# Altium integrated library Analog Devices Clock Generation and Distribution.IntLib: 120 symbols (part 2 of 18)
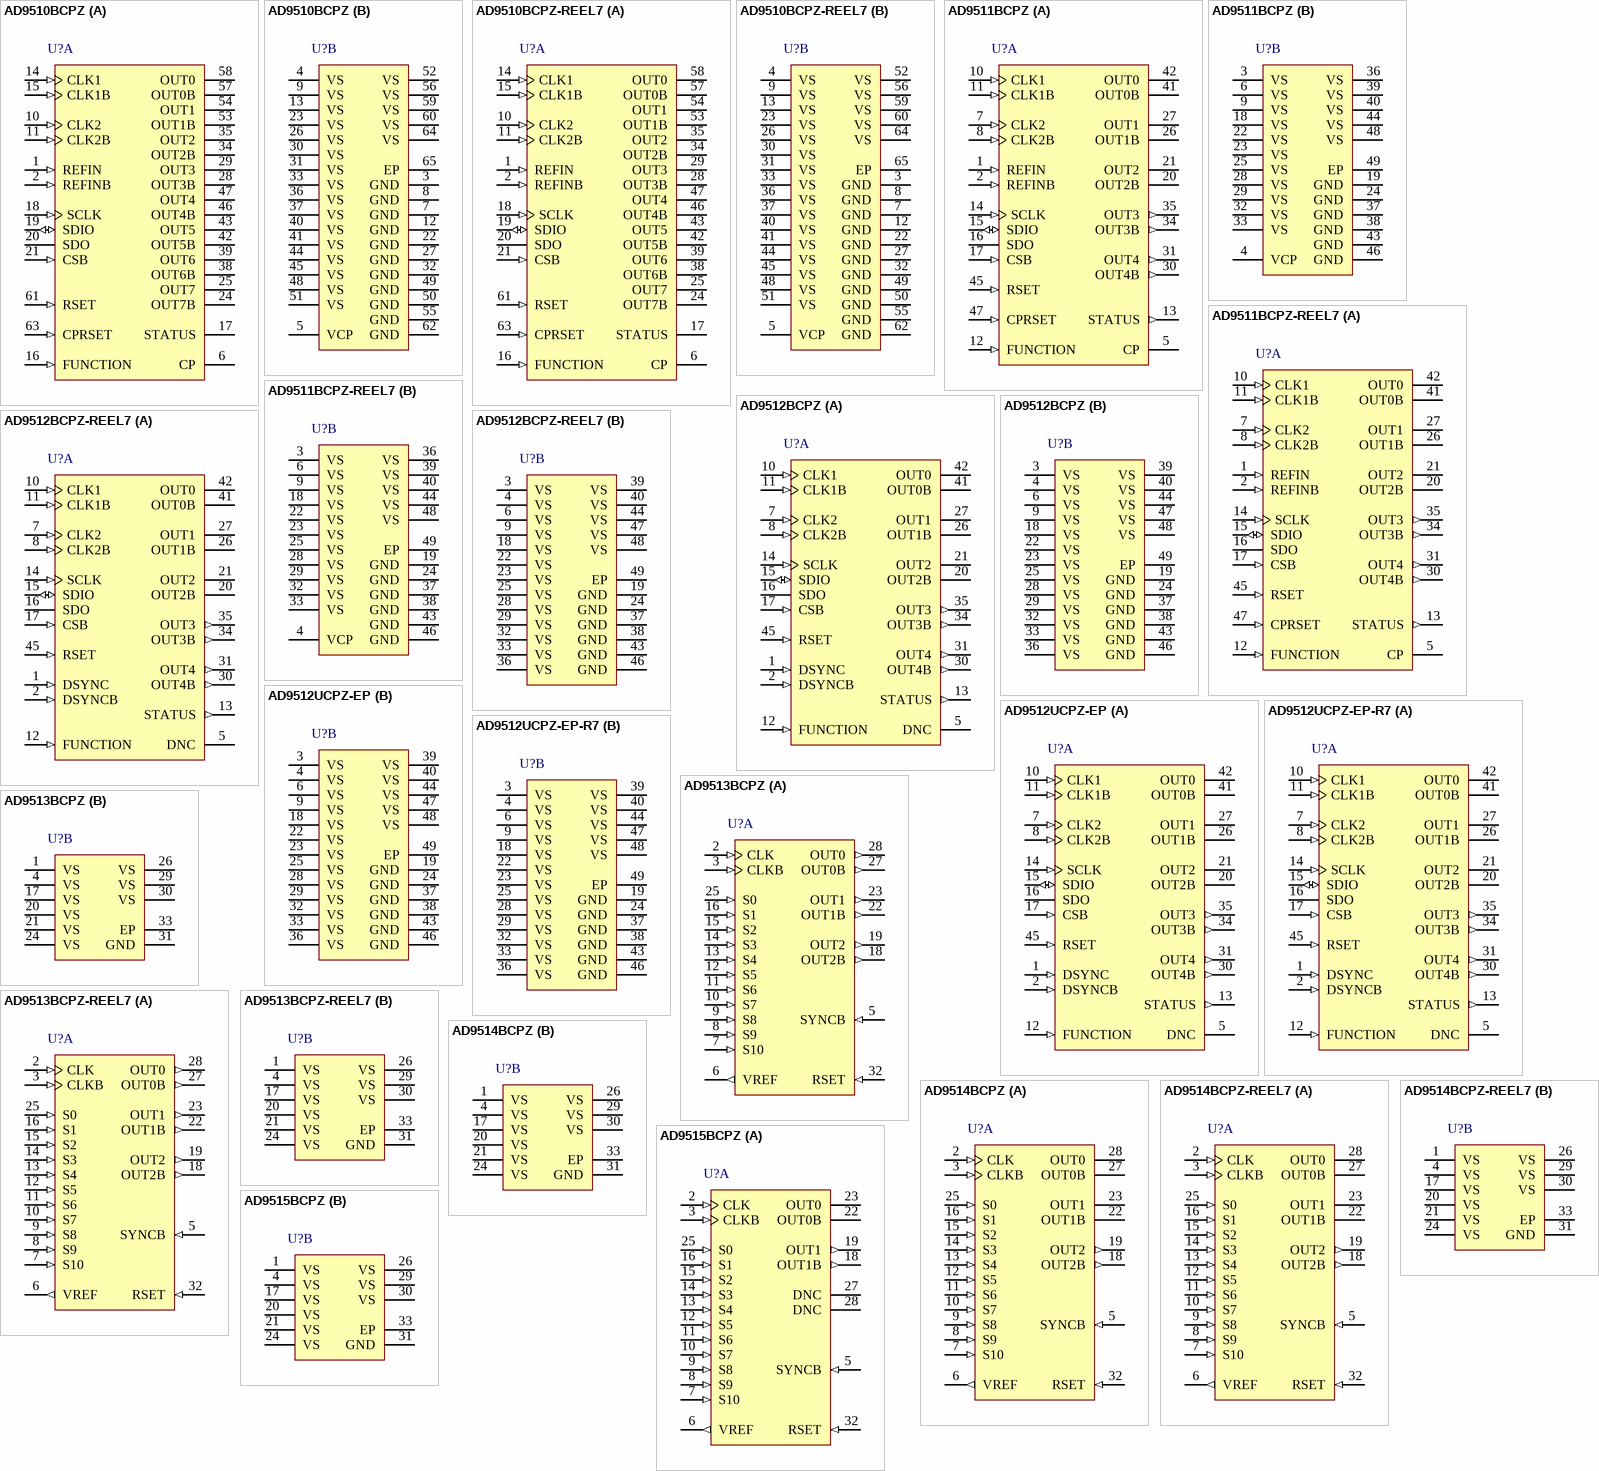
[diagram p13: symbols AD9510BCPZ to AD9515BCPZ]

## AD9514BCPZ
designator U?
3 Outputs, 1.6 GHz Clock Distribution IC with Dividers and Delay Adjust, 3.3 V Supply, Industrial, 32-pin QFN (CP-32-2), Tray; Manufacturer: Analog Devices; PartNumber: AD9514BCPZ; # of Inputs: 1; # of Outputs: 3; Supply Voltage (V): 3.3; I/O Interface: Pin Select; Max f-out: 1.6 GHz; On-Chip VCO or DCO: No; Output Logic: CMOS, LVDS, LVPECL; DatasheetVersion: Rev. 0; PackageVersion: 01/2005; PackageReference: CP-32-2; PackageDescription: 32-Pin Lead Frame Chip Scale Package, Body 5 x 5 mm, Pitch 0.5 mm; Supplier 1: Digi-Key; Supplier Part Number 1: AD9514BCPZ-ND; Supplier 2: Farnell; Supplier Part Number 2: 1117885; Supplier 3: Newark; Supplier Part Number 3: 31M4654; Supplier 4: Newark; Supplier Part Number 4: 59K7292; Supplier 5: Mouser; Supplier Part Number 5: 584-AD9514BCPZ; Packing: Tray; Mounting Technology: Surface Mount; Code_JEDEC: MO-220-VHHD-2; ComponentLink1Description: Manufacturer URL; ComponentLink1URL: http://www.analog.com/en/index.html; ComponentLink2Description: Datasheet; ComponentLink2URL: http://www.analog.com/static/imported-files/data_sheets/AD9514.pdf; ComponentLink3Description: Package Specification; ComponentLink3URL: http://www.analog.com/static/imported-files/packages/414143737956480539664569CP_32_2.pdf; ComponentLink4Description: Product URL; ComponentLink4URL: http://www.analog.com/en/clock-and-timing/clock-generation-and-distribution/ad9514/products/product.html; ComponentLink5Description: Reference Circuit; ComponentLink5URL: http://www.analog.com/en/clock-and-timing/clock-generation-and-distribution/ad9514/products/product.html#product-recommendations
footprint ADI-CP-32-2_N (QFN, 32-Leads, Body 5x5mm, Pitch 0.5mm, Thermal Pad 3.1x3.1mm, IPC Medium Density)
footprint ADI-CP-32-2_L (QFN, 32-Leads, Body 5x5mm, Pitch 0.5mm, Thermal Pad 3.1x3.1mm, IPC High Density)
footprint ADI-CP-32-2_M (QFN, 32-Leads, Body 5x5mm, Pitch 0.5mm, Thermal Pad 3.1x3.1mm, IPC Low Density)
part A pins: 2 CLK (in) "Clock Input.", 3 CLKB (in) "Complementary Clock Input.", 5 SYNCB (in) "Used to Synchronize Outputs; Do Not Let Float.", 6 VREF (out) "Provides 2/3 VS for Use as One of the Four Logic Levels on S0 to S10.", 7 S10 (in) "Setup Select Pins. These are 4-state logic. The logic levels are VS, GND, 1/3 VS, and 2/3 VS. The VREF pin provides 2/3 VS. Each pin is internally biased to 1/3 VS so that a pin requiring that logic level should be left no connection (NC).", 8 S9 (in) "Setup Select Pins. These are 4-state logic. The logic levels are VS, GND, 1/3 VS, and 2/3 VS. The VREF pin provides 2/3 VS. Each pin is internally biased to 1/3 VS so that a pin requiring that logic level should be left no connection (NC).", 9 S8 (in) "Setup Select Pins. These are 4-state logic. The logic levels are VS, GND, 1/3 VS, and 2/3 VS. The VREF pin provides 2/3 VS. Each pin is internally biased to 1/3 VS so that a pin requiring that logic level should be left no connection (NC).", 10 S7 (in) "Setup Select Pins. These are 4-state logic. The logic levels are VS, GND, 1/3 VS, and 2/3 VS. The VREF pin provides 2/3 VS. Each pin is internally biased to 1/3 VS so that a pin requiring that logic level should be left no connection (NC).", 11 S6 (in) "Setup Select Pins. These are 4-state logic. The logic levels are VS, GND, 1/3 VS, and 2/3 VS. The VREF pin provides 2/3 VS. Each pin is internally biased to 1/3 VS so that a pin requiring that logic level should be left no connection (NC).", 12 S5 (in) "Setup Select Pins. These are 4-state logic. The logic levels are VS, GND, 1/3 VS, and 2/3 VS. The VREF pin provides 2/3 VS. Each pin is internally biased to 1/3 VS so that a pin requiring that logic level should be left no connection (NC).", 13 S4 (in) "Setup Select Pins. These are 4-state logic. The logic levels are VS, GND, 1/3 VS, and 2/3 VS. The VREF pin provides 2/3 VS. Each pin is internally biased to 1/3 VS so that a pin requiring that logic level should be left no connection (NC).", 14 S3 (in) "Setup Select Pins. These are 4-state logic. The logic levels are VS, GND, 1/3 VS, and 2/3 VS. The VREF pin provides 2/3 VS. Each pin is internally biased to 1/3 VS so that a pin requiring that logic level should be left no connection (NC).", 15 S2 (in) "Setup Select Pins. These are 4-state logic. The logic levels are VS, GND, 1/3 VS, and 2/3 VS. The VREF pin provides 2/3 VS. Each pin is internally biased to 1/3 VS so that a pin requiring that logic level should be left no connection (NC).", 16 S1 (in) "Setup Select Pins. These are 4-state logic. The logic levels are VS, GND, 1/3 VS, and 2/3 VS. The VREF pin provides 2/3 VS. Each pin is internally biased to 1/3 VS so that a pin requiring that logic level should be left no connection (NC).", 18 OUT2B (out) "Complementary LVDS/Inverted CMOS Output.", 19 OUT2 (out) "LVDS/CMOS Output.", 22 OUT1B (oe) "Complementary LVPECL Output.", 23 OUT1 (oe) "LVPECL Output.", 25 S0 (in) "Setup Select Pins. These are 4-state logic. The logic levels are VS, GND, 1/3 VS, and 2/3 VS. The VREF pin provides 2/3 VS. Each pin is internally biased to 1/3 VS so that a pin requiring that logic level should be left no connection (NC).", 27 OUT0B (oe) "Complementary LVPECL Output.", 28 OUT0 (oe) "LVPECL Output.", 32 RSET (in) "Current Sets Resistor to Ground. Nominal value = 4.12 K ohm."
part B pins: 1 VS (power) "Power Supply (3.3 V).", 4 VS (power) "Power Supply (3.3 V).", 17 VS (power) "Power Supply (3.3 V).", 20 VS (power) "Power Supply (3.3 V).", 21 VS (power) "Power Supply (3.3 V).", 24 VS (power) "Power Supply (3.3 V).", 26 VS (power) "Power Supply (3.3 V).", 29 VS (power) "Power Supply (3.3 V).", 30 VS (power) "Power Supply (3.3 V).", 31 GND (power) "Ground. The exposed paddle on the back of the chip is also GND.", 33 EP (power) "Ground. The exposed paddle on the back of the chip is also GND."

## AD9514BCPZ-REEL7
designator U?
3 Outputs, 1.6 GHz Clock Distribution IC with Dividers and Delay Adjust, 3.3 V Supply, Industrial, 32-pin QFN (CP-32-2), Reel; Manufacturer: Analog Devices; PartNumber: AD9514BCPZ-REEL7; # of Inputs: 1; # of Outputs: 3; Supply Voltage (V): 3.3; I/O Interface: Pin Select; Max f-out: 1.6 GHz; On-Chip VCO or DCO: No; Output Logic: CMOS, LVDS, LVPECL; DatasheetVersion: Rev. 0; PackageVersion: 01/2005; PackageReference: CP-32-2; PackageDescription: 32-Pin Lead Frame Chip Scale Package, Body 5 x 5 mm, Pitch 0.5 mm; Supplier 1: Digi-Key; Supplier Part Number 1: AD9514BCPZ-REEL7-ND; Supplier 2: Newark; Supplier Part Number 2: 59K7293; Supplier 3: Mouser; Supplier Part Number 3: 584-AD9514BCPZ-R7; Packing: Reel; Mounting Technology: Surface Mount; Code_JEDEC: MO-220-VHHD-2; ComponentLink1Description: Manufacturer URL; ComponentLink1URL: http://www.analog.com/en/index.html; ComponentLink2Description: Datasheet; ComponentLink2URL: http://www.analog.com/static/imported-files/data_sheets/AD9514.pdf; ComponentLink3Description: Package Specification; ComponentLink3URL: http://www.analog.com/static/imported-files/packages/414143737956480539664569CP_32_2.pdf; ComponentLink4Description: Product URL; ComponentLink4URL: http://www.analog.com/en/clock-and-timing/clock-generation-and-distribution/ad9514/products/product.html; ComponentLink5Description: Reference Circuit; ComponentLink5URL: http://www.analog.com/en/clock-and-timing/clock-generation-and-distribution/ad9514/products/product.html#product-recommendations
footprint ADI-CP-32-2_N (QFN, 32-Leads, Body 5x5mm, Pitch 0.5mm, Thermal Pad 3.1x3.1mm, IPC Medium Density)
footprint ADI-CP-32-2_L (QFN, 32-Leads, Body 5x5mm, Pitch 0.5mm, Thermal Pad 3.1x3.1mm, IPC High Density)
footprint ADI-CP-32-2_M (QFN, 32-Leads, Body 5x5mm, Pitch 0.5mm, Thermal Pad 3.1x3.1mm, IPC Low Density)
part A pins: 2 CLK (in) "Clock Input.", 3 CLKB (in) "Complementary Clock Input.", 5 SYNCB (in) "Used to Synchronize Outputs; Do Not Let Float.", 6 VREF (out) "Provides 2/3 VS for Use as One of the Four Logic Levels on S0 to S10.", 7 S10 (in) "Setup Select Pins. These are 4-state logic. The logic levels are VS, GND, 1/3 VS, and 2/3 VS. The VREF pin provides 2/3 VS. Each pin is internally biased to 1/3 VS so that a pin requiring that logic level should be left no connection (NC).", 8 S9 (in) "Setup Select Pins. These are 4-state logic. The logic levels are VS, GND, 1/3 VS, and 2/3 VS. The VREF pin provides 2/3 VS. Each pin is internally biased to 1/3 VS so that a pin requiring that logic level should be left no connection (NC).", 9 S8 (in) "Setup Select Pins. These are 4-state logic. The logic levels are VS, GND, 1/3 VS, and 2/3 VS. The VREF pin provides 2/3 VS. Each pin is internally biased to 1/3 VS so that a pin requiring that logic level should be left no connection (NC).", 10 S7 (in) "Setup Select Pins. These are 4-state logic. The logic levels are VS, GND, 1/3 VS, and 2/3 VS. The VREF pin provides 2/3 VS. Each pin is internally biased to 1/3 VS so that a pin requiring that logic level should be left no connection (NC).", 11 S6 (in) "Setup Select Pins. These are 4-state logic. The logic levels are VS, GND, 1/3 VS, and 2/3 VS. The VREF pin provides 2/3 VS. Each pin is internally biased to 1/3 VS so that a pin requiring that logic level should be left no connection (NC).", 12 S5 (in) "Setup Select Pins. These are 4-state logic. The logic levels are VS, GND, 1/3 VS, and 2/3 VS. The VREF pin provides 2/3 VS. Each pin is internally biased to 1/3 VS so that a pin requiring that logic level should be left no connection (NC).", 13 S4 (in) "Setup Select Pins. These are 4-state logic. The logic levels are VS, GND, 1/3 VS, and 2/3 VS. The VREF pin provides 2/3 VS. Each pin is internally biased to 1/3 VS so that a pin requiring that logic level should be left no connection (NC).", 14 S3 (in) "Setup Select Pins. These are 4-state logic. The logic levels are VS, GND, 1/3 VS, and 2/3 VS. The VREF pin provides 2/3 VS. Each pin is internally biased to 1/3 VS so that a pin requiring that logic level should be left no connection (NC).", 15 S2 (in) "Setup Select Pins. These are 4-state logic. The logic levels are VS, GND, 1/3 VS, and 2/3 VS. The VREF pin provides 2/3 VS. Each pin is internally biased to 1/3 VS so that a pin requiring that logic level should be left no connection (NC).", 16 S1 (in) "Setup Select Pins. These are 4-state logic. The logic levels are VS, GND, 1/3 VS, and 2/3 VS. The VREF pin provides 2/3 VS. Each pin is internally biased to 1/3 VS so that a pin requiring that logic level should be left no connection (NC).", 18 OUT2B (out) "Complementary LVDS/Inverted CMOS Output.", 19 OUT2 (out) "LVDS/CMOS Output.", 22 OUT1B (oe) "Complementary LVPECL Output.", 23 OUT1 (oe) "LVPECL Output.", 25 S0 (in) "Setup Select Pins. These are 4-state logic. The logic levels are VS, GND, 1/3 VS, and 2/3 VS. The VREF pin provides 2/3 VS. Each pin is internally biased to 1/3 VS so that a pin requiring that logic level should be left no connection (NC).", 27 OUT0B (oe) "Complementary LVPECL Output.", 28 OUT0 (oe) "LVPECL Output.", 32 RSET (in) "Current Sets Resistor to Ground. Nominal value = 4.12 K ohm."
part B pins: 1 VS (power) "Power Supply (3.3 V).", 4 VS (power) "Power Supply (3.3 V).", 17 VS (power) "Power Supply (3.3 V).", 20 VS (power) "Power Supply (3.3 V).", 21 VS (power) "Power Supply (3.3 V).", 24 VS (power) "Power Supply (3.3 V).", 26 VS (power) "Power Supply (3.3 V).", 29 VS (power) "Power Supply (3.3 V).", 30 VS (power) "Power Supply (3.3 V).", 31 GND (power) "Ground. The exposed paddle on the back of the chip is also GND.", 33 EP (power) "Ground. The exposed paddle on the back of the chip is also GND."

## AD9515BCPZ
designator U?
2 Outputs, 1.6 GHz Clock Distribution IC with Dividers and Delay Adjust, 3.3 V Supply, Industrial, 32-pin QFN (CP-32-2), Tray; Manufacturer: Analog Devices; PartNumber: AD9515BCPZ; # of Inputs: 1; # of Outputs: 2; Supply Voltage (V): 3.3; I/O Interface: Pin Select; Max f-out: 1.6 GHz; On-Chip VCO or DCO: No; Output Logic: CMOS, LVDS, LVPECL; DatasheetVersion: Rev. A; PackageVersion: 01/2005; PackageReference: CP-32-2; PackageDescription: 32-Pin Lead Frame Chip Scale Package, Body 5 x 5 mm, Pitch 0.5 mm; Supplier 1: Digi-Key; Supplier Part Number 1: AD9515BCPZ-ND; Supplier 2: Farnell; Supplier Part Number 2: 1117884; Supplier 3: Newark; Supplier Part Number 3: 59K7295; Supplier 4: Mouser; Supplier Part Number 4: 584-AD9515BCPZ; Packing: Tray; Mounting Technology: Surface Mount; Code_JEDEC: MO-220-VHHD-2; ComponentLink1Description: Manufacturer URL; ComponentLink1URL: http://www.analog.com/en/index.html; ComponentLink2Description: Datasheet; ComponentLink2URL: http://www.analog.com/static/imported-files/data_sheets/AD9515.pdf; ComponentLink3Description: Package Specification; ComponentLink3URL: http://www.analog.com/static/imported-files/packages/414143737956480539664569CP_32_2.pdf; ComponentLink4Description: Product URL; ComponentLink4URL: http://www.analog.com/en/clock-and-timing/clock-generation-and-distribution/ad9515/products/product.html; ComponentLink5Description: Reference Circuit; ComponentLink5URL: http://www.analog.com/en/clock-and-timing/clock-generation-and-distribution/ad9515/products/product.html#product-recommendations
footprint ADI-CP-32-2_N (QFN, 32-Leads, Body 5x5mm, Pitch 0.5mm, Thermal Pad 3.1x3.1mm, IPC Medium Density)
footprint ADI-CP-32-2_L (QFN, 32-Leads, Body 5x5mm, Pitch 0.5mm, Thermal Pad 3.1x3.1mm, IPC High Density)
footprint ADI-CP-32-2_M (QFN, 32-Leads, Body 5x5mm, Pitch 0.5mm, Thermal Pad 3.1x3.1mm, IPC Low Density)
part A pins: 2 CLK (in) "Clock Input.", 3 CLKB (in) "Complementary Clock Input. Used in conjunction with CLK.", 5 SYNCB (in) "Used to Synchronize the Outputs; Active Low Signal.", 6 VREF (out) "Provides 2/3 VS Reference Voltage for Use with Programming Pins S0 to S10.", 7 S10 (in) "Programming Pins. These pins determine the operation of the AD9515; 4-state logic.", 8 S9 (in) "Programming Pins. These pins determine the operation of the AD9515; 4-state logic.", 9 S8 (in) "Programming Pins. These pins determine the operation of the AD9515; 4-state logic.", 10 S7 (in) "Programming Pins. These pins determine the operation of the AD9515; 4-state logic.", 11 S6 (in) "Programming Pins. These pins determine the operation of the AD9515; 4-state logic.", 12 S5 (in) "Programming Pins. These pins determine the operation of the AD9515; 4-state logic.", 13 S4 (in) "Programming Pins. These pins determine the operation of the AD9515; 4-state logic.", 14 S3 (in) "Programming Pins. These pins determine the operation of the AD9515; 4-state logic.", 15 S2 (in) "Programming Pins. These pins determine the operation of the AD9515; 4-state logic.", 16 S1 (in) "Programming Pins. These pins determine the operation of the AD9515; 4-state logic.", 18 OUT1B (out) "Complementary LVDS/Inverted CMOS Output. Includes a delay block.", 19 OUT1 (out) "LVDS/CMOS Output. Includes a delay block.", 22 OUT0B (oe) "Complementary LVPECL Output.", 23 OUT0 (oe) "LVPECL Output.", 25 S0 (in) "Programming Pins. These pins determine the operation of the AD9515; 4-state logic.", 27 DNC "Do Not Connect.", 28 DNC "Do Not Connect.", 32 RSET (in) "Current Sets Resistor to Ground. Nominal value = 4.12 kohm."
part B pins: 1 VS (power) "Power Supply (3.3 V).", 4 VS (power) "Power Supply (3.3 V).", 17 VS (power) "Power Supply (3.3 V).", 20 VS (power) "Power Supply (3.3 V).", 21 VS (power) "Power Supply (3.3 V).", 24 VS (power) "Power Supply (3.3 V).", 26 VS (power) "Power Supply (3.3 V).", 29 VS (power) "Power Supply (3.3 V).", 30 VS (power) "Power Supply (3.3 V).", 31 GND (power) "Ground. The exposed paddle on the back of the chip is also GND.", 33 EP (power) "Ground. The exposed paddle on the back of the chip is also GND."

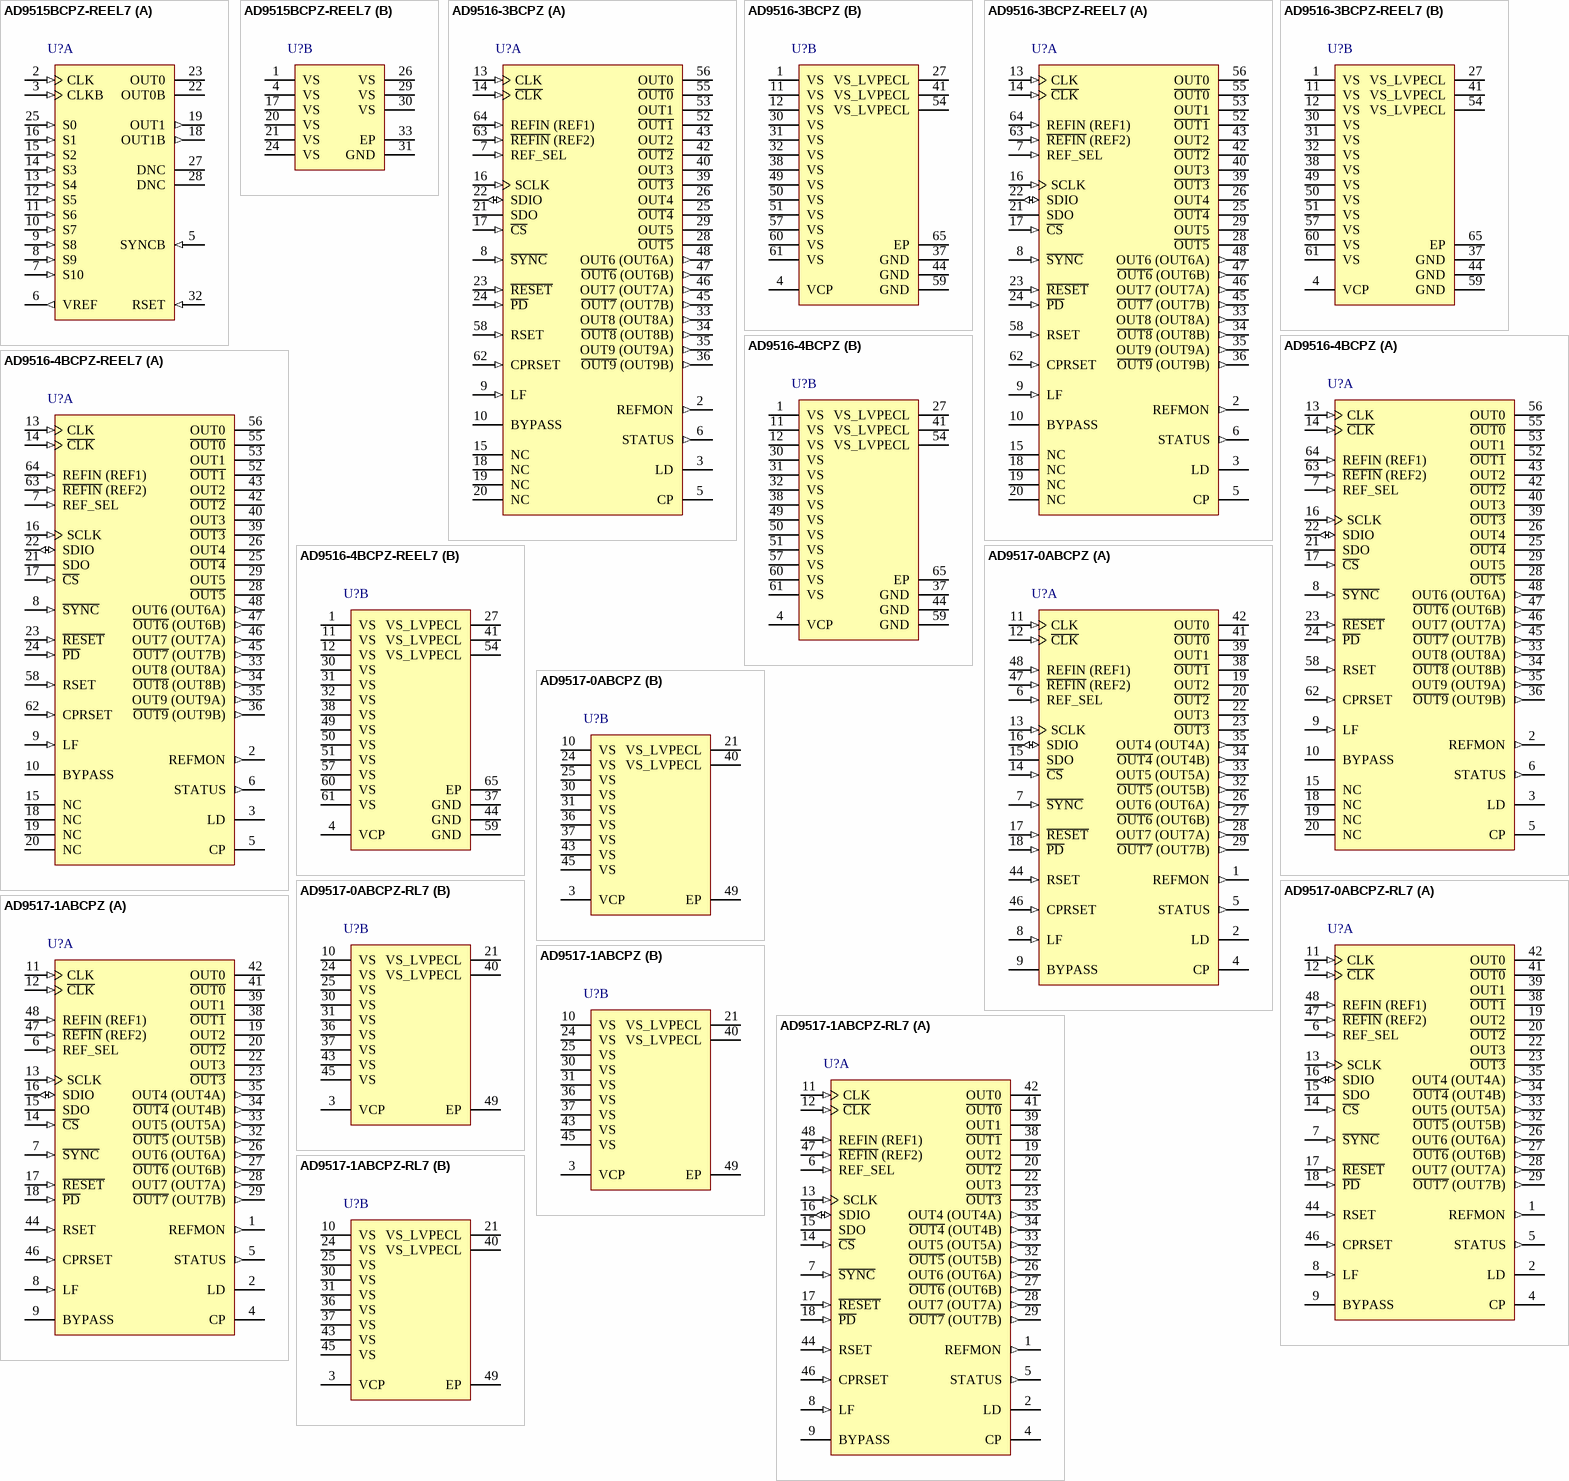
[diagram p1: symbols AD9515BCPZ-REEL7 to AD9517-1ABCPZ-RL7]

## AD9515BCPZ-REEL7
designator U?
2 Outputs, 1.6 GHz Clock Distribution IC with Dividers and Delay Adjust, 3.3 V Supply, Industrial, 32-pin QFN (CP-32-2), Reel; Manufacturer: Analog Devices; PartNumber: AD9515BCPZ-REEL7; # of Inputs: 1; # of Outputs: 2; Supply Voltage (V): 3.3; I/O Interface: Pin Select; Max f-out: 1.6 GHz; On-Chip VCO or DCO: No; Output Logic: CMOS, LVDS, LVPECL; DatasheetVersion: Rev. A; PackageVersion: 01/2005; PackageReference: CP-32-2; PackageDescription: 32-Pin Lead Frame Chip Scale Package, Body 5 x 5 mm, Pitch 0.5 mm; Supplier 1: Digi-Key; Supplier Part Number 1: AD9515BCPZ-REEL7-ND; Supplier 2: Newark; Supplier Part Number 2: 59K7296; Supplier 3: Mouser; Supplier Part Number 3: 584-AD9515BCPZ-R7; Packing: Reel; Mounting Technology: Surface Mount; Code_JEDEC: MO-220-VHHD-2; ComponentLink1Description: Manufacturer URL; ComponentLink1URL: http://www.analog.com/en/index.html; ComponentLink2Description: Datasheet; ComponentLink2URL: http://www.analog.com/static/imported-files/data_sheets/AD9515.pdf; ComponentLink3Description: Package Specification; ComponentLink3URL: http://www.analog.com/static/imported-files/packages/414143737956480539664569CP_32_2.pdf; ComponentLink4Description: Product URL; ComponentLink4URL: http://www.analog.com/en/clock-and-timing/clock-generation-and-distribution/ad9515/products/product.html; ComponentLink5Description: Reference Circuit; ComponentLink5URL: http://www.analog.com/en/clock-and-timing/clock-generation-and-distribution/ad9515/products/product.html#product-recommendations
footprint ADI-CP-32-2_N (QFN, 32-Leads, Body 5x5mm, Pitch 0.5mm, Thermal Pad 3.1x3.1mm, IPC Medium Density)
footprint ADI-CP-32-2_L (QFN, 32-Leads, Body 5x5mm, Pitch 0.5mm, Thermal Pad 3.1x3.1mm, IPC High Density)
footprint ADI-CP-32-2_M (QFN, 32-Leads, Body 5x5mm, Pitch 0.5mm, Thermal Pad 3.1x3.1mm, IPC Low Density)
part A pins: 2 CLK (in) "Clock Input.", 3 CLKB (in) "Complementary Clock Input. Used in conjunction with CLK.", 5 SYNCB (in) "Used to Synchronize the Outputs; Active Low Signal.", 6 VREF (out) "Provides 2/3 VS Reference Voltage for Use with Programming Pins S0 to S10.", 7 S10 (in) "Programming Pins. These pins determine the operation of the AD9515; 4-state logic.", 8 S9 (in) "Programming Pins. These pins determine the operation of the AD9515; 4-state logic.", 9 S8 (in) "Programming Pins. These pins determine the operation of the AD9515; 4-state logic.", 10 S7 (in) "Programming Pins. These pins determine the operation of the AD9515; 4-state logic.", 11 S6 (in) "Programming Pins. These pins determine the operation of the AD9515; 4-state logic.", 12 S5 (in) "Programming Pins. These pins determine the operation of the AD9515; 4-state logic.", 13 S4 (in) "Programming Pins. These pins determine the operation of the AD9515; 4-state logic.", 14 S3 (in) "Programming Pins. These pins determine the operation of the AD9515; 4-state logic.", 15 S2 (in) "Programming Pins. These pins determine the operation of the AD9515; 4-state logic.", 16 S1 (in) "Programming Pins. These pins determine the operation of the AD9515; 4-state logic.", 18 OUT1B (out) "Complementary LVDS/Inverted CMOS Output. Includes a delay block.", 19 OUT1 (out) "LVDS/CMOS Output. Includes a delay block.", 22 OUT0B (oe) "Complementary LVPECL Output.", 23 OUT0 (oe) "LVPECL Output.", 25 S0 (in) "Programming Pins. These pins determine the operation of the AD9515; 4-state logic.", 27 DNC "Do Not Connect.", 28 DNC "Do Not Connect.", 32 RSET (in) "Current Sets Resistor to Ground. Nominal value = 4.12 kohm."
part B pins: 1 VS (power) "Power Supply (3.3 V).", 4 VS (power) "Power Supply (3.3 V).", 17 VS (power) "Power Supply (3.3 V).", 20 VS (power) "Power Supply (3.3 V).", 21 VS (power) "Power Supply (3.3 V).", 24 VS (power) "Power Supply (3.3 V).", 26 VS (power) "Power Supply (3.3 V).", 29 VS (power) "Power Supply (3.3 V).", 30 VS (power) "Power Supply (3.3 V).", 31 GND (power) "Ground. The exposed paddle on the back of the chip is also GND.", 33 EP (power) "Ground. The exposed paddle on the back of the chip is also GND."

## AD9516-3BCPZ
designator U?
14 Outputs Clock Generator with Integrated 2.0 GHz VCO, 3.3 V Supply, Industrial, 64-pin QFN (CP-64-4), Tray; Manufacturer: Analog Devices; PartNumber: AD9516-3BCPZ; # of Inputs: 2; # of Outputs: 14; Supply Voltage (V): 3.3; I/O Interface: Serial; Max f-out: 2.25 GHz; On-Chip VCO or DCO: Yes; Output Logic: CMOS, LVDS, LVPECL; DatasheetVersion: Rev. B; PackageVersion: 06-12-2012-B, 06/2012; PackageReference: CP-64-4; PackageDescription: 64-Pin Lead Frame Chip Scale Package, Body 9 x 9 mm, Pitch 0.5 mm; Supplier 1: Digi-Key; Supplier Part Number 1: AD9516-3BCPZ-ND; Supplier 2: Farnell; Supplier Part Number 2: 1571260; Supplier 3: Newark; Supplier Part Number 3: 50M0830; Supplier 4: Mouser; Supplier Part Number 4: 584-AD9516-3BCPZ; Packing: Tray; Mounting Technology: Surface Mount; Code_JEDEC: MO-220-VMMD-4; ComponentLink1Description: Manufacturer URL; ComponentLink1URL: http://www.analog.com/en/index.html; ComponentLink2Description: Datasheet; ComponentLink2URL: http://www.analog.com/static/imported-files/data_sheets/AD9516_3.pdf; ComponentLink3Description: Package Specification; ComponentLink3URL: http://www.analog.com/static/imported-files/packages/PKG_PDF/LFCSP(CP)/CP_64_4.pdf; ComponentLink4Description: Product URL; ComponentLink4URL: http://www.analog.com/en/clock-and-timing/clock-generation-and-distribution/ad9516-3/products/product.html; ComponentLink5Description: Reference Circuit; ComponentLink5URL: http://www.analog.com/en/clock-and-timing/clock-generation-and-distribution/ad9516-3/products/product.html#product-recommendations
footprint ADI-CP-64-4_N (QFN, 64-Leads, Body 9x9mm, Pitch 0.5mm, Thermal Pad 6.2x6.2mm, IPC Medium Density)
footprint ADI-CP-64-4_L (QFN, 64-Leads, Body 9x9mm, Pitch 0.5mm, Thermal Pad 6.2x6.2mm, IPC High Density)
footprint ADI-CP-64-4_M (QFN, 64-Leads, Body 9x9mm, Pitch 0.5mm, Thermal Pad 6.2x6.2mm, IPC Low Density)
part A pins: 2 REFMON (out) "Reference Monitor (Output). This pin has multiple selectable outputs; see Table 54, Register 0x01B.", 3 LD (hiz) "Lock Detect (Output). This pin has multiple selectable outputs; see Table 54, Register 0x1A", 5 CP (hiz) "Charge Pump (Output). Connects to external loop filter.", 6 STATUS (out) "Status (Output). This pin has multiple selectable outputs; see Table 54, Register 0x017. Reference Select. Selects REF1 (low) or REF2 (high). This pin has an internal 30 k ohm pull-down resistor.", 7 REF_SEL (in) "Reference Select. Selects REF1 (low) or REF2 (high). This pin has an internal 30 k ohm pull-down resistor", 8 ~{SYNC} (in) "Manual Synchronizations and Manual Holdover. This pin initiates a manual synchronization and is also used for manual holdover. Active low. This pin has an internal 30 k ohm pull-up resistor", 9 LF (in) "Loop Filter (Input). Connects to VCO control voltage node internally. This pin has 31 pF of internal capacitance to ground, which may influence the loop filter design for large (>500 kHz) loop bandwidths.", 10 BYPASS "This pin is for bypassing the LDO to ground with a capacitor", 13 CLK (in) "Along with C\L\K\, this is the differential input for the clock distribution section.", 14 ~{CLK} (in) "Along with CLK, this is the differential input for the clock distribution section", 15 NC "No Connect. Do not connect to this pin.", 16 SCLK (in) "Serial Control Port Data Clock Signal.", 17 ~{CS} (in) "Serial Control Port Chip Select, Active Low. This pin has an internal 30 k ohm pull-up resistor.", 18 NC "No Connect. Do not connect to this pin.", 19 NC "No Connect. Do not connect to this pin.", 20 NC "No Connect. Do not connect to this pin.", 21 SDO (hiz) "Serial Control Port Unidirectional Serial Data Out.", 22 SDIO (io) "Serial Control Port Bidirectional Serial Data In/Out.", 23 ~{RESET} (in) "Chip Reset, Active Low. This pin has an internal 30 k ohm pull-up resistor.", 24 ~{PD} (in) "Chip Power-Down, Active Low. This pin has an internal 30 k ohm pull-up resistor.", 25 ~{OUT4} (hiz) "LVPECL Output; One Side of a Differential LVPECL Output.", 26 OUT4 (hiz) "LVPECL Output; One Side of a Differential LVPECL Output.", 28 ~{OUT5} (hiz) "LVPECL Output; One Side of a Differential LVPECL Output.", 29 OUT5 (hiz) "LVPECL Output; One Side of a Differential LVPECL Output.", 33 OUT8 (OUT8A) (out) "LVDS/CMOS Output; One Side of a Differential LVDS Output, or a Single-Ended CMOS Output.", 34 ~{OUT8} (OUT8B) (out) "LVDS/CMOS Output; One Side of a Differential LVDS Output, or a Single-Ended CMOS Output.", 35 OUT9 (OUT9A) (out) "LVDS/CMOS Output; One Side of a Differential LVDS Output, or a Single-Ended CMOS Output.", 36 ~{OUT9} (OUT9B) (out) "LVDS/CMOS Output; One Side of a Differential LVDS Output, or a Single-Ended CMOS Output.", 39 ~{OUT3} (hiz) "LVPECL Output; One Side of a Differential LVPECL Output", 40 OUT3 (hiz) "LVPECL Output; One Side of a Differential LVPECL Output", 42 ~{OUT2} (hiz) "LVPECL Output; One Side of a Differential LVPECL Output", 43 OUT2 (hiz) "LVPECL Output; One Side of a Differential LVPECL Output", 45 ~{OUT7} (OUT7B) (out) "LVDS/CMOS Output; One Side of a Differential LVDS Output, or a Single-Ended CMOS Output.", 46 OUT7 (OUT7A) (out) "LVDS/CMOS Output; One Side of a Differential LVDS Output, or a Single-Ended CMOS Output.", 47 ~{OUT6} (OUT6B) (out) "LVDS/CMOS Output; One Side of a Differential LVDS Output, or a Single-Ended CMOS Output.", 48 OUT6 (OUT6A) (out) "LVDS/CMOS Output; One Side of a Differential LVDS Output, or a Single-Ended CMOS Output.", 52 ~{OUT1} (hiz) "LVPECL Output; One Side of a Differential LVPECL Output.", 53 OUT1 (hiz) "LVPECL Output; One Side of a Differential LVPECL Output.", 55 ~{OUT0} (hiz) "LVPECL Output; One Side of a Differential LVPECL Output.", 56 OUT0 (hiz) "LVPECL Output; One Side of a Differential LVPECL Output", 58 RSET (in) "A resistor connected to this pin sets internal bias currents. Nominal value = 4.12 k ohm.", 62 CPRSET (in) "A resistor connected to this pin sets the CP current range. Nominal value = 5.1 k ohm.", 63 ~{REFIN} (REF2) (in) "Along with REFIN, this pin is the differential input for the PLL reference. Alternatively, this pin is a single-ended input for REF2", 64 REFIN (REF1) (in) "Along with R\E\F\I\N\, this pin is the differential input for the PLL reference. Alternatively, this pin is a single-ended input for REF1."
part B pins: 1 VS (power) "3.3 V Power Pins.", 4 VCP (power) "Power Supply for Charge Pump (CP); VS =< VCP =< 5.0 V.", 11 VS (power) "3.3 V Power Pins.", 12 VS (power) "3.3 V Power Pins.", 27 VS_LVPECL (power) "Extended Voltage 2.5 V to 3.3 V LVPECL Power Pins.", 30 VS (power) "3.3 V Power Pins.", 31 VS (power) "3.3 V Power Pins.", 32 VS (power) "3.3 V Power Pins.", 37 GND (power) "Ground Pins, Including External Paddle (EPAD). The external paddle on the bottom of the package must be connected to ground for proper operation", 38 VS (power) "3.3 V Power Pins.", 41 VS_LVPECL (power) "Extended Voltage 2.5 V to 3.3 V LVPECL Power Pins.", 44 GND (power) "Ground Pins, Including External Paddle (EPAD). The external paddle on the bottom of the package must be connected to ground for proper operation", 49 VS (power) "3.3 V Power Pins.", 50 VS (power) "3.3 V Power Pins.", 51 VS (power) "3.3 V Power Pins.", 54 VS_LVPECL (power) "Extended Voltage 2.5 V to 3.3 V LVPECL Power Pins.", 57 VS (power) "3.3 V Power Pins.", 59 GND (power) "Ground Pins, Including External Paddle (EPAD). The external paddle on the bottom of the package must be connected to ground for proper operation", 60 VS (power) "3.3 V Power Pins.", 61 VS (power) "3.3 V Power Pins.", 65 EP (power) "Ground Pins, Including External Paddle (EPAD). The external paddle on the bottom of the package must be connected to ground for proper operation."

## AD9516-3BCPZ-REEL7
designator U?
14 Outputs Clock Generator with Integrated 2.0 GHz VCO, 3.3 V Supply, Industrial, 64-pin QFN (CP-64-4), Reel; Manufacturer: Analog Devices; PartNumber: AD9516-3BCPZ-REEL7; # of Inputs: 2; # of Outputs: 14; Supply Voltage (V): 3.3; I/O Interface: Serial; Max f-out: 2.25 GHz; On-Chip VCO or DCO: Yes; Output Logic: CMOS, LVDS, LVPECL; DatasheetVersion: Rev. B; PackageVersion: 06-12-2012-B, 06/2012; PackageReference: CP-64-4; PackageDescription: 64-Pin Lead Frame Chip Scale Package, Body 9 x 9 mm, Pitch 0.5 mm; Supplier 1: Digi-Key; Supplier Part Number 1: AD9516-3BCPZ-REEL7TR-ND; Supplier 2: Digi-Key; Supplier Part Number 2: AD9516-3BCPZ-REEL7CT-ND; Supplier 3: Digi-Key; Supplier Part Number 3: AD9516-3BCPZ-REEL7DKR-ND; Supplier 4: Newark; Supplier Part Number 4: 50M0831; Supplier 5: Mouser; Supplier Part Number 5: 584-AD9516-3BCPZR7; Packing: Reel; Mounting Technology: Surface Mount; Code_JEDEC: MO-220-VMMD-4; ComponentLink1Description: Manufacturer URL; ComponentLink1URL: http://www.analog.com/en/index.html; ComponentLink2Description: Datasheet; ComponentLink2URL: http://www.analog.com/static/imported-files/data_sheets/AD9516_3.pdf; ComponentLink3Description: Package Specification; ComponentLink3URL: http://www.analog.com/static/imported-files/packages/PKG_PDF/LFCSP(CP)/CP_64_4.pdf; ComponentLink4Description: Product URL; ComponentLink4URL: http://www.analog.com/en/clock-and-timing/clock-generation-and-distribution/ad9516-3/products/product.html; ComponentLink5Description: Reference Circuit; ComponentLink5URL: http://www.analog.com/en/clock-and-timing/clock-generation-and-distribution/ad9516-3/products/product.html#product-recommendations
footprint ADI-CP-64-4_N (QFN, 64-Leads, Body 9x9mm, Pitch 0.5mm, Thermal Pad 6.2x6.2mm, IPC Medium Density)
footprint ADI-CP-64-4_L (QFN, 64-Leads, Body 9x9mm, Pitch 0.5mm, Thermal Pad 6.2x6.2mm, IPC High Density)
footprint ADI-CP-64-4_M (QFN, 64-Leads, Body 9x9mm, Pitch 0.5mm, Thermal Pad 6.2x6.2mm, IPC Low Density)
part A pins: 2 REFMON (out) "Reference Monitor (Output). This pin has multiple selectable outputs; see Table 54, Register 0x01B.", 3 LD (hiz) "Lock Detect (Output). This pin has multiple selectable outputs; see Table 54, Register 0x1A", 5 CP (hiz) "Charge Pump (Output). Connects to external loop filter.", 6 STATUS (out) "Status (Output). This pin has multiple selectable outputs; see Table 54, Register 0x017. Reference Select. Selects REF1 (low) or REF2 (high). This pin has an internal 30 k ohm pull-down resistor.", 7 REF_SEL (in) "Reference Select. Selects REF1 (low) or REF2 (high). This pin has an internal 30 k ohm pull-down resistor", 8 ~{SYNC} (in) "Manual Synchronizations and Manual Holdover. This pin initiates a manual synchronization and is also used for manual holdover. Active low. This pin has an internal 30 k ohm pull-up resistor", 9 LF (in) "Loop Filter (Input). Connects to VCO control voltage node internally. This pin has 31 pF of internal capacitance to ground, which may influence the loop filter design for large (>500 kHz) loop bandwidths.", 10 BYPASS "This pin is for bypassing the LDO to ground with a capacitor", 13 CLK (in) "Along with C\L\K\, this is the differential input for the clock distribution section.", 14 ~{CLK} (in) "Along with CLK, this is the differential input for the clock distribution section", 15 NC "No Connect. Do not connect to this pin.", 16 SCLK (in) "Serial Control Port Data Clock Signal.", 17 ~{CS} (in) "Serial Control Port Chip Select, Active Low. This pin has an internal 30 k ohm pull-up resistor.", 18 NC "No Connect. Do not connect to this pin.", 19 NC "No Connect. Do not connect to this pin.", 20 NC "No Connect. Do not connect to this pin.", 21 SDO (hiz) "Serial Control Port Unidirectional Serial Data Out.", 22 SDIO (io) "Serial Control Port Bidirectional Serial Data In/Out.", 23 ~{RESET} (in) "Chip Reset, Active Low. This pin has an internal 30 k ohm pull-up resistor.", 24 ~{PD} (in) "Chip Power-Down, Active Low. This pin has an internal 30 k ohm pull-up resistor.", 25 ~{OUT4} (hiz) "LVPECL Output; One Side of a Differential LVPECL Output.", 26 OUT4 (hiz) "LVPECL Output; One Side of a Differential LVPECL Output.", 28 ~{OUT5} (hiz) "LVPECL Output; One Side of a Differential LVPECL Output.", 29 OUT5 (hiz) "LVPECL Output; One Side of a Differential LVPECL Output.", 33 OUT8 (OUT8A) (out) "LVDS/CMOS Output; One Side of a Differential LVDS Output, or a Single-Ended CMOS Output.", 34 ~{OUT8} (OUT8B) (out) "LVDS/CMOS Output; One Side of a Differential LVDS Output, or a Single-Ended CMOS Output.", 35 OUT9 (OUT9A) (out) "LVDS/CMOS Output; One Side of a Differential LVDS Output, or a Single-Ended CMOS Output.", 36 ~{OUT9} (OUT9B) (out) "LVDS/CMOS Output; One Side of a Differential LVDS Output, or a Single-Ended CMOS Output.", 39 ~{OUT3} (hiz) "LVPECL Output; One Side of a Differential LVPECL Output", 40 OUT3 (hiz) "LVPECL Output; One Side of a Differential LVPECL Output", 42 ~{OUT2} (hiz) "LVPECL Output; One Side of a Differential LVPECL Output", 43 OUT2 (hiz) "LVPECL Output; One Side of a Differential LVPECL Output", 45 ~{OUT7} (OUT7B) (out) "LVDS/CMOS Output; One Side of a Differential LVDS Output, or a Single-Ended CMOS Output.", 46 OUT7 (OUT7A) (out) "LVDS/CMOS Output; One Side of a Differential LVDS Output, or a Single-Ended CMOS Output.", 47 ~{OUT6} (OUT6B) (out) "LVDS/CMOS Output; One Side of a Differential LVDS Output, or a Single-Ended CMOS Output.", 48 OUT6 (OUT6A) (out) "LVDS/CMOS Output; One Side of a Differential LVDS Output, or a Single-Ended CMOS Output.", 52 ~{OUT1} (hiz) "LVPECL Output; One Side of a Differential LVPECL Output.", 53 OUT1 (hiz) "LVPECL Output; One Side of a Differential LVPECL Output.", 55 ~{OUT0} (hiz) "LVPECL Output; One Side of a Differential LVPECL Output.", 56 OUT0 (hiz) "LVPECL Output; One Side of a Differential LVPECL Output", 58 RSET (in) "A resistor connected to this pin sets internal bias currents. Nominal value = 4.12 k ohm.", 62 CPRSET (in) "A resistor connected to this pin sets the CP current range. Nominal value = 5.1 k ohm.", 63 ~{REFIN} (REF2) (in) "Along with REFIN, this pin is the differential input for the PLL reference. Alternatively, this pin is a single-ended input for REF2", 64 REFIN (REF1) (in) "Along with R\E\F\I\N\, this pin is the differential input for the PLL reference. Alternatively, this pin is a single-ended input for REF1."
part B pins: 1 VS (power) "3.3 V Power Pins.", 4 VCP (power) "Power Supply for Charge Pump (CP); VS =< VCP =< 5.0 V.", 11 VS (power) "3.3 V Power Pins.", 12 VS (power) "3.3 V Power Pins.", 27 VS_LVPECL (power) "Extended Voltage 2.5 V to 3.3 V LVPECL Power Pins.", 30 VS (power) "3.3 V Power Pins.", 31 VS (power) "3.3 V Power Pins.", 32 VS (power) "3.3 V Power Pins.", 37 GND (power) "Ground Pins, Including External Paddle (EPAD). The external paddle on the bottom of the package must be connected to ground for proper operation", 38 VS (power) "3.3 V Power Pins.", 41 VS_LVPECL (power) "Extended Voltage 2.5 V to 3.3 V LVPECL Power Pins.", 44 GND (power) "Ground Pins, Including External Paddle (EPAD). The external paddle on the bottom of the package must be connected to ground for proper operation", 49 VS (power) "3.3 V Power Pins.", 50 VS (power) "3.3 V Power Pins.", 51 VS (power) "3.3 V Power Pins.", 54 VS_LVPECL (power) "Extended Voltage 2.5 V to 3.3 V LVPECL Power Pins.", 57 VS (power) "3.3 V Power Pins.", 59 GND (power) "Ground Pins, Including External Paddle (EPAD). The external paddle on the bottom of the package must be connected to ground for proper operation", 60 VS (power) "3.3 V Power Pins.", 61 VS (power) "3.3 V Power Pins.", 65 EP (power) "Ground Pins, Including External Paddle (EPAD). The external paddle on the bottom of the package must be connected to ground for proper operation."

## AD9516-4BCPZ
designator U?
14 Outputs Clock Generator with Integrated 1.6 GHz VCO, 3.3 V Supply, Industrial, 64-pin QFN (CP-64-4), Tray; Manufacturer: Analog Devices; PartNumber: AD9516-4BCPZ; # of Inputs: 2; # of Outputs: 14; Supply Voltage (V): 3.3; I/O Interface: Serial; Max f-out: 1.8 GHz; On-Chip VCO or DCO: Yes; Output Logic: CMOS, LVDS, LVPECL; DatasheetVersion: Rev. B; PackageVersion: 06-12-2012-B, 06/2012; PackageReference: CP-64-4; PackageDescription: 64-Pin Lead Frame Chip Scale Package, Body 9 x 9 mm, Pitch 0.5 mm; Supplier 1: Digi-Key; Supplier Part Number 1: AD9516-4BCPZ-ND; Supplier 2: Farnell; Supplier Part Number 2: 2376798; Supplier 3: Newark; Supplier Part Number 3: 46M5291; Supplier 4: Mouser; Supplier Part Number 4: 584-AD9516-4BCPZ; Packing: Tray; Mounting Technology: Surface Mount; Code_JEDEC: MO-220-VMMD-4; ComponentLink1Description: Manufacturer URL; ComponentLink1URL: http://www.analog.com/en/index.html; ComponentLink2Description: Datasheet; ComponentLink2URL: http://www.analog.com/static/imported-files/data_sheets/AD9516-4.pdf; ComponentLink3Description: Package Specification; ComponentLink3URL: http://www.analog.com/static/imported-files/packages/PKG_PDF/LFCSP(CP)/CP_64_4.pdf; ComponentLink4Description: Product URL; ComponentLink4URL: http://www.analog.com/en/clock-and-timing/clock-generation-and-distribution/ad9516-4/products/product.html; ComponentLink5Description: Reference Circuit; ComponentLink5URL: http://www.analog.com/en/clock-and-timing/clock-generation-and-distribution/ad9516-4/products/product.html#product-recommendations
footprint ADI-CP-64-4_N (QFN, 64-Leads, Body 9x9mm, Pitch 0.5mm, Thermal Pad 6.2x6.2mm, IPC Medium Density)
footprint ADI-CP-64-4_L (QFN, 64-Leads, Body 9x9mm, Pitch 0.5mm, Thermal Pad 6.2x6.2mm, IPC High Density)
footprint ADI-CP-64-4_M (QFN, 64-Leads, Body 9x9mm, Pitch 0.5mm, Thermal Pad 6.2x6.2mm, IPC Low Density)
part A pins: 2 REFMON (out) "Reference Monitor (Output). This pin has multiple selectable outputs; see Table 54, Register 0x01B.", 3 LD (hiz) "Lock Detect (Output). This pin has multiple selectable outputs; see Table 54, Register 0x1A", 5 CP (hiz) "Charge Pump (Output). Connects to external loop filter.", 6 STATUS (out) "Status (Output). This pin has multiple selectable outputs; see Table 54, Register 0x017. Reference Select. Selects REF1 (low) or REF2 (high). This pin has an internal 30 k ohm pull-down resistor.", 7 REF_SEL (in) "Reference Select. Selects REF1 (low) or REF2 (high). This pin has an internal 30 k ohm pull-down resistor", 8 ~{SYNC} (in) "Manual Synchronizations and Manual Holdover. This pin initiates a manual synchronization and is also used for manual holdover. Active low. This pin has an internal 30 k ohm pull-up resistor", 9 LF (in) "Loop Filter (Input). Connects to VCO control voltage node internally. This pin has 31 pF of internal capacitance to ground, which may influence the loop filter design for large (>500 kHz) loop bandwidths.", 10 BYPASS "This pin is for bypassing the LDO to ground with a capacitor", 13 CLK (in) "Along with C\L\K\, this is the differential input for the clock distribution section.", 14 ~{CLK} (in) "Along with CLK, this is the differential input for the clock distribution section", 15 NC "No Connect. Do not connect to this pin.", 16 SCLK (in) "Serial Control Port Data Clock Signal.", 17 ~{CS} (in) "Serial Control Port Chip Select, Active Low. This pin has an internal 30 k ohm pull-up resistor.", 18 NC "No Connect. Do not connect to this pin.", 19 NC "No Connect. Do not connect to this pin.", 20 NC "No Connect. Do not connect to this pin.", 21 SDO (hiz) "Serial Control Port Unidirectional Serial Data Out.", 22 SDIO (io) "Serial Control Port Bidirectional Serial Data In/Out.", 23 ~{RESET} (in) "Chip Reset, Active Low. This pin has an internal 30 k ohm pull-up resistor.", 24 ~{PD} (in) "Chip Power-Down, Active Low. This pin has an internal 30 k ohm pull-up resistor.", 25 ~{OUT4} (hiz) "LVPECL Output; One Side of a Differential LVPECL Output.", 26 OUT4 (hiz) "LVPECL Output; One Side of a Differential LVPECL Output.", 28 ~{OUT5} (hiz) "LVPECL Output; One Side of a Differential LVPECL Output.", 29 OUT5 (hiz) "LVPECL Output; One Side of a Differential LVPECL Output.", 33 OUT8 (OUT8A) (out) "LVDS/CMOS Output; One Side of a Differential LVDS Output, or a Single-Ended CMOS Output.", 34 ~{OUT8} (OUT8B) (out) "LVDS/CMOS Output; One Side of a Differential LVDS Output, or a Single-Ended CMOS Output.", 35 OUT9 (OUT9A) (out) "LVDS/CMOS Output; One Side of a Differential LVDS Output, or a Single-Ended CMOS Output.", 36 ~{OUT9} (OUT9B) (out) "LVDS/CMOS Output; One Side of a Differential LVDS Output, or a Single-Ended CMOS Output.", 39 ~{OUT3} (hiz) "LVPECL Output; One Side of a Differential LVPECL Output", 40 OUT3 (hiz) "LVPECL Output; One Side of a Differential LVPECL Output", 42 ~{OUT2} (hiz) "LVPECL Output; One Side of a Differential LVPECL Output", 43 OUT2 (hiz) "LVPECL Output; One Side of a Differential LVPECL Output", 45 ~{OUT7} (OUT7B) (out) "LVDS/CMOS Output; One Side of a Differential LVDS Output, or a Single-Ended CMOS Output.", 46 OUT7 (OUT7A) (out) "LVDS/CMOS Output; One Side of a Differential LVDS Output, or a Single-Ended CMOS Output.", 47 ~{OUT6} (OUT6B) (out) "LVDS/CMOS Output; One Side of a Differential LVDS Output, or a Single-Ended CMOS Output.", 48 OUT6 (OUT6A) (out) "LVDS/CMOS Output; One Side of a Differential LVDS Output, or a Single-Ended CMOS Output.", 52 ~{OUT1} (hiz) "LVPECL Output; One Side of a Differential LVPECL Output.", 53 OUT1 (hiz) "LVPECL Output; One Side of a Differential LVPECL Output.", 55 ~{OUT0} (hiz) "LVPECL Output; One Side of a Differential LVPECL Output.", 56 OUT0 (hiz) "LVPECL Output; One Side of a Differential LVPECL Output", 58 RSET (in) "A resistor connected to this pin sets internal bias currents. Nominal value = 4.12 k ohm.", 62 CPRSET (in) "A resistor connected to this pin sets the CP current range. Nominal value = 5.1 k ohm.", 63 ~{REFIN} (REF2) (in) "Along with REFIN, this pin is the differential input for the PLL reference. Alternatively, this pin is a single-ended input for REF2", 64 REFIN (REF1) (in) "Along with R\E\F\I\N\, this pin is the differential input for the PLL reference. Alternatively, this pin is a single-ended input for REF1."
part B pins: 1 VS (power) "3.3 V Power Pins.", 4 VCP (power) "Power Supply for Charge Pump (CP); VS =< VCP =< 5.0 V.", 11 VS (power) "3.3 V Power Pins.", 12 VS (power) "3.3 V Power Pins.", 27 VS_LVPECL (power) "Extended Voltage 2.5 V to 3.3 V LVPECL Power Pins.", 30 VS (power) "3.3 V Power Pins.", 31 VS (power) "3.3 V Power Pins.", 32 VS (power) "3.3 V Power Pins.", 37 GND (power) "Ground Pins, Including External Paddle (EPAD). The external paddle on the bottom of the package must be connected to ground for proper operation", 38 VS (power) "3.3 V Power Pins.", 41 VS_LVPECL (power) "Extended Voltage 2.5 V to 3.3 V LVPECL Power Pins.", 44 GND (power) "Ground Pins, Including External Paddle (EPAD). The external paddle on the bottom of the package must be connected to ground for proper operation", 49 VS (power) "3.3 V Power Pins.", 50 VS (power) "3.3 V Power Pins.", 51 VS (power) "3.3 V Power Pins.", 54 VS_LVPECL (power) "Extended Voltage 2.5 V to 3.3 V LVPECL Power Pins.", 57 VS (power) "3.3 V Power Pins.", 59 GND (power) "Ground Pins, Including External Paddle (EPAD). The external paddle on the bottom of the package must be connected to ground for proper operation", 60 VS (power) "3.3 V Power Pins.", 61 VS (power) "3.3 V Power Pins.", 65 EP (power) "Ground Pins, Including External Paddle (EPAD). The external paddle on the bottom of the package must be connected to ground for proper operation."